# EAGLE library part ADXL344 (library Beschleunigungssensor - 3 Achsen - ADXL344)
Name des Bauteiles: -->ADXL344 Daten: Multipurpose accelerometer with 10- to 13-bit resolution for use in a wide variety of applications Digital output accessible via SPI (3- and 4-wire) and I2C Built-in motion detection features make tap, double-tap, activity, inactivity, orientation, and free-fall detection trivial User-adjustable thresholds Interrupts independently mappable to two interrupt pins Low power operation down to 23 μA and embedded FIFO for reducing overall system power Wide supply and I/O voltage range: 1.7 V to 2.75 V Wide operating temperature range (−40°C to +85°C) 10,000 g shock survival Small, thin Pb free, RoHS compliant 3 mm × 3 mm × 0.95 mm LGA package Artikelnummer:#keine feste Artikelnummer vorhanden / Atikel nicht lagermäßig vorhanden! Datenblatt:www.alldatasheet.com __________________________________________ generated by Eagle Description Tool am : 28.01.2014 08:58:48 erstellt von: Hm
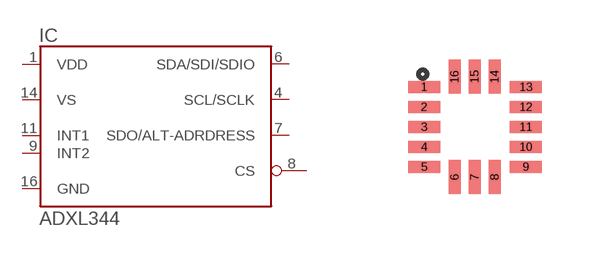
[diagram p0: symbol with the pads of CC-16-3; footprint CC-16-3]

Designator prefix IC

## ADXL344SMD  [CC-16-3]
1  VDD
4  SCL/SCLK
6  SDA/SDI/SDIO
7  SDO/ALT-ADRDRESS
8  CS
9  INT2
11  INT1
14  VS
16  GND

## Footprint CC-16-3 (pad centres in mm)
smd 0.8 x 0.3: 1 -1.27,1.27; 2 -1.27,0.77; 3 -1.27,0.27; 4 -1.27,-0.23; 5 -1.27,-0.73; 9 1.276,-0.73; 10 1.276,-0.23; 11 1.276,0.27; 12 1.276,0.77; 13 1.276,1.27
smd 0.3 x 0.85: 6 -0.499,-0.979; 7 0.001,-0.979; 8 0.501,-0.979; 14 0.5,1.53; 15 0,1.53; 16 -0.5,1.53